# EAGLE library part CD74HC4017M96 (library ruark2)
Counter IC Counter, Decade 1 Element 10 Bit Positive Edge 16-SOIC 35MHz
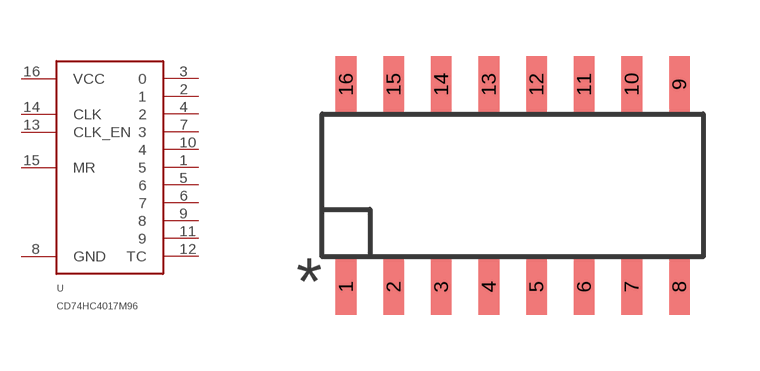
[diagram p122: symbol with the pads of SOIC16_TI; footprint SOIC16_TI]

Designator prefix U

## CD74HC4017M96 (PARTNO: 296-12808-1-ND)  [SOIC16_TI]
1  5
2  1
3  0
4  2
5  6
6  7
7  3
8  GND
9  8
10  4
11  9
12  TC
13  CLK_EN
14  CLK
15  MR
16  VCC

## Footprint SOIC16_TI (pad centres in mm)
smd 0.549 x 1.499: 1 -4.445,-2.7; 2 -3.175,-2.7; 3 -1.905,-2.7; 4 -0.635,-2.7; 5 0.635,-2.7; 6 1.905,-2.7; 7 3.175,-2.7; 8 4.445,-2.7; 9 4.445,2.7; 10 3.175,2.7; 11 1.905,2.7; 12 0.635,2.7; 13 -0.635,2.7; 14 -1.905,2.7; 15 -3.175,2.7; 16 -4.445,2.7